# EAGLE library part SN74LV4051A (library bschulz)
SN74LV4051A - Analog Multiplexer Characteristics: VCC: 2~5.5V Operating Temperature: -40°C to 85°C On state resistace: 75 Ω, Max Channel to Channel Matching: 1.3 Ω, Typical Digikey: 296-41644-1-ND (TSSOP) <https://www.digikey.com/product-detail/en/texas-instruments/SN74LV4051APWRG4/296-41644-1-ND/5224383> 296-13945-1-ND (VQFN) <https://www.digikey.com/product-detail/en/texas-instruments/SN74LV4051ARGYR/296-13945-1-ND/521511>
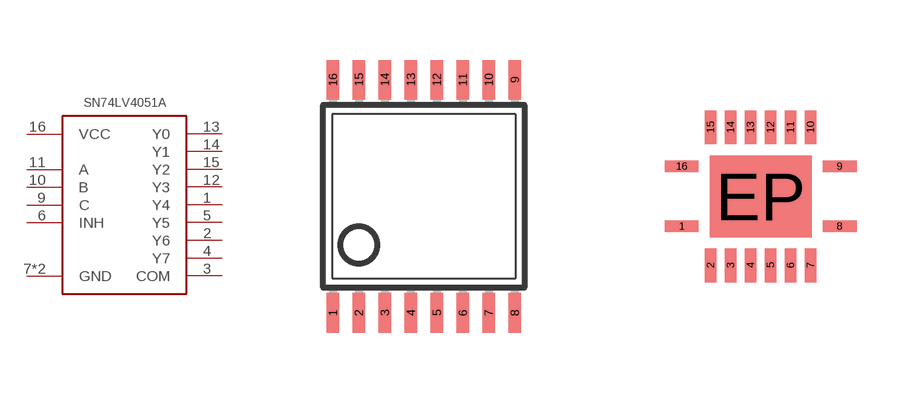
[diagram p36: symbol with the pads of TSSOP16; footprints TSSOP16, R-PVQFN-N16]

Designator prefix -

## SN74LV4051ATSSOP (DIGIKEY: 296-41644-1-ND; MF: TI; MPN: SN74LV4051APWRG4)  [TSSOP16]
1  Y4
2  Y6
3  COM
4  Y7
5  Y5
6  INH
7  GND
8  GND
9  C
10  B
11  A
12  Y3
13  Y0
14  Y1
15  Y2
16  VCC

## SN74LV4051AVQFN (DIGIKEY: 296-13945-1-ND; MF: TI; MPN: SN74LV4051ARGYR)  [R-PVQFN-N16]
1  Y4
2  Y6
3  COM
4  Y7
5  Y5
6  INH
7  GND
8  GND
9  C
10  B
11  A
12  Y3
13  Y0
14  Y1
15  Y2
16  VCC
EP  GND

## Footprint TSSOP16 (pad centres in mm)
Thin Shrink Small Outline Plastic 16 http://www.maxim-ic.com .. MAX3223-MAX3243.pdf
smd 0.305 x 0.991: 1 -2.275,-2.918; 2 -1.625,-2.918; 3 -0.975,-2.918; 4 -0.325,-2.918; 5 0.325,-2.918; 6 0.975,-2.918; 7 1.625,-2.918; 8 2.275,-2.918; 9 2.275,2.918; 10 1.625,2.918; 11 0.975,2.918; 12 0.325,2.918; 13 -0.325,2.918; 14 -0.975,2.918; 15 -1.625,2.918; 16 -2.275,2.918

## Footprint R-PVQFN-N16 (pad centres in mm)
smd 0.85 x 0.28: 1 -1.975,-0.75; 8 1.975,-0.75; 9 1.975,0.75; 16 -1.975,0.75
smd 0.28 x 0.85: 2 -1.25,-1.725; 3 -0.75,-1.725; 4 -0.25,-1.725; 5 0.25,-1.725; 6 0.75,-1.725; 7 1.25,-1.725; 10 1.25,1.725; 11 0.75,1.725; 12 0.25,1.725; 13 -0.25,1.725; 14 -0.75,1.725; 15 -1.25,1.725
smd 2.55 x 2.05: EP 0,0